# EAGLE library part MC14551J (library joakim)
Quad 2-channel analog MULTIPLEXER/DEMULTIPLEXER
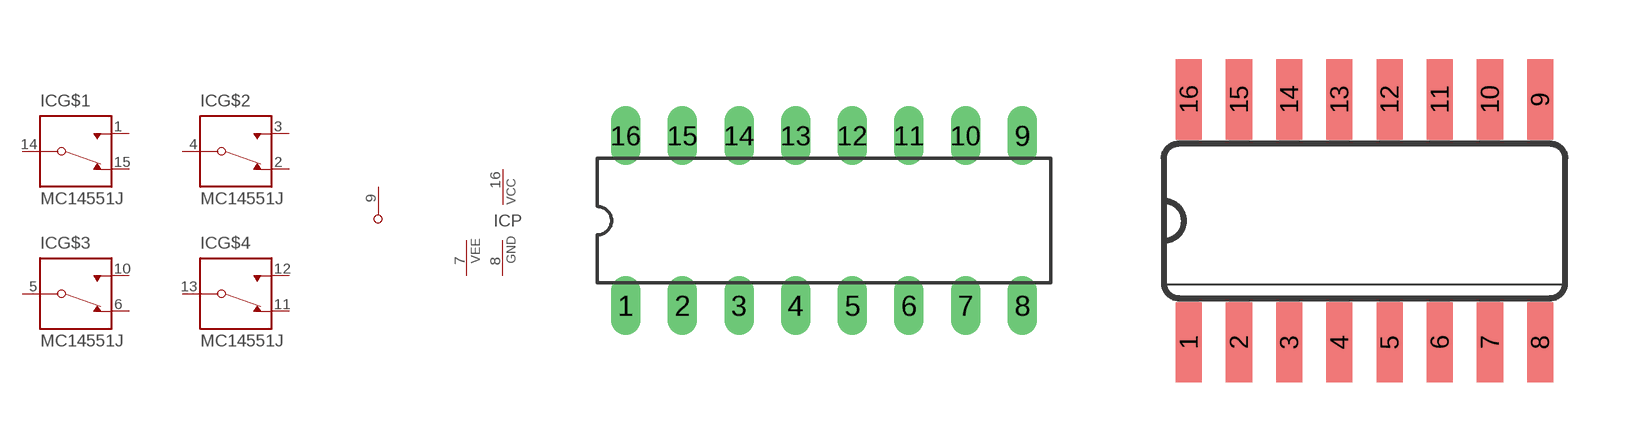
[diagram p28: symbol with the pads of DIL16J; footprints DIL16J, SO16J]

Designator prefix IC; gates P=PWR+VEE G$1=SWITCH-CELL G$2=SWITCH-CELL G$3=SWITCH-CELL G$4=SWITCH-CELL G$5=SWITCH-CTRL

## MC14551JN  [DIL16J]
1  G$1:1
2  G$2:0
3  G$2:1
4  G$2:COM
5  G$3:COM
6  G$3:0
7  P:VEE  pwr
8  P:GND  pwr
9  G$5:CTRL
10  G$3:1
11  G$4:0
12  G$4:1
13  G$4:COM
14  G$1:COM
15  G$1:0
16  P:VCC  pwr

## MC14551JD  [SO16J]
Pads as for DIL16J

## Footprint DIL16J (pad centres in mm)
Dual In Line 16
drill 0.813 long: 1 -8.89,-3.81; 2 -6.35,-3.81; 3 -3.81,-3.81; 4 -1.27,-3.81; 5 1.27,-3.81; 6 3.81,-3.81; 7 6.35,-3.81; 8 8.89,-3.81; 9 8.89,3.81; 10 6.35,3.81; 11 3.81,3.81; 12 1.27,3.81; 13 -1.27,3.81; 14 -3.81,3.81; 15 -6.35,3.81; 16 -8.89,3.81

## Footprint SO16J (pad centres in mm)
Small Outline Package 16
smd 0.66 x 2.032: 1 -4.445,-3.073; 2 -3.175,-3.073; 3 -1.905,-3.073; 4 -0.635,-3.073; 5 0.635,-3.073; 6 1.905,-3.073; 7 3.175,-3.073; 8 4.445,-3.073; 9 4.445,3.073; 10 3.175,3.073; 11 1.905,3.073; 12 0.635,3.073; 13 -0.635,3.073; 14 -1.905,3.073; 15 -3.175,3.073; 16 -4.445,3.073